# Altium footprint library ACM-V.PcbLib: 1 footprints
Each footprint in its own frame and in the unit in brackets; x right, y up, seen from the top. Pads: shape width x height; smd on the part's side, far side on the other; paste and mask are expansions set on the pad; w line width, h text height; cw(c..) or ccw(c..) is an arc to the next point about the centre after c.
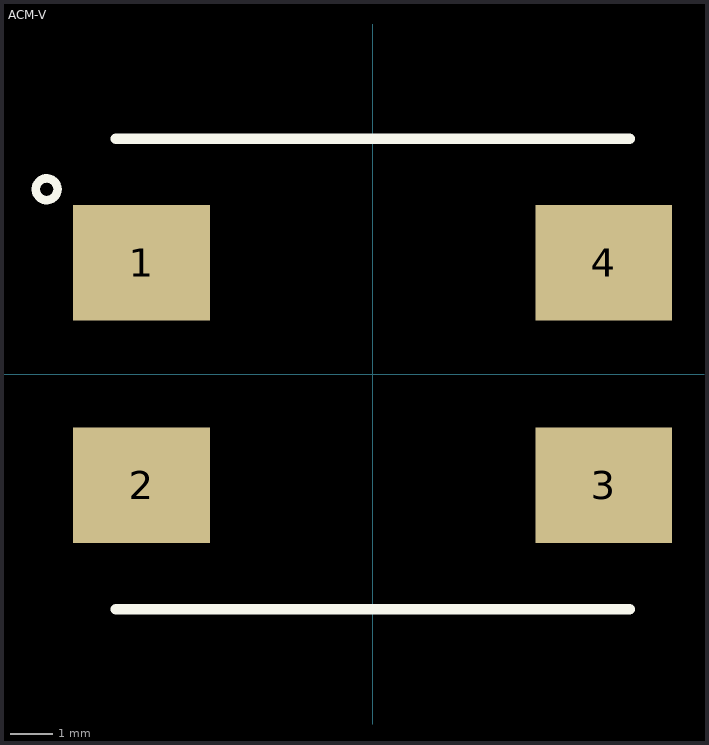
[diagram p0: the footprint, top view; thin cyan lines are the x and y axes]

## ACM-V [mm]
pads (4):
  rect 3.2x2.7 smd: 1(-5.4,2.6) 2(-5.4,-2.6) 3(5.4,-2.6) 4(5.4,2.6)
Top Overlay:
  circle w0.2: c-7.62,4.318 r0.254
  lines w0.254: -6,-5.5 6,-5.5 ; -6,5.5 6,5.5
3D body "ACM12V-701-2PL-TL00--3DModel-STEP-1.step": height 6, standoff 0, extent -6,-5.5 6,5.5